# EAGLE library part TXS0108 (library Picoradio1V1)
IC TRNSLTR BIDIRECTIONAL 20VQFN
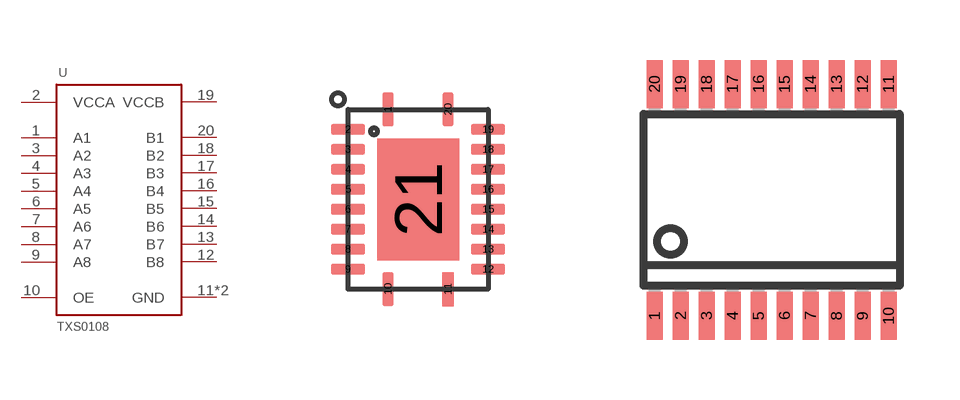
[diagram p1: symbol with the pads of QFN20-RGY; footprints QFN20-RGY, R-PDSO-G20]

Designator prefix U

## TXS0108QFN20 (DIGIKEY: 296-24806-1-ND; MFR: Texas Instruments; MPN: TXS0108ERGYR)  [QFN20-RGY]
1  A1
2  VCCA  in
3  A2
4  A3
5  A4
6  A5
7  A6
8  A7
9  A8
10  OE  in
11  GND  sup
12  B8
13  B7
14  B6
15  B5
16  B4
17  B3
18  B2
19  VCCB  in
20  B1
21  GND  sup

## TXS0108TSSOP-20  [R-PDSO-G20]
1  A1
2  VCCA  in
3  A2
4  A3
5  A4
6  A5
7  A6
8  A7
9  A8
10  OE  in
11  GND  sup
12  B8
13  B7
14  B6
15  B5
16  B4
17  B3
18  B2
19  VCCB  in
20  B1

## Footprint QFN20-RGY (pad centres in mm)
Texas Instruments RGY (QFN20) package
smd 0.28 x 0.85: 1 -0.75,2.25; 10 -0.75,-2.25; 11 0.75,-2.25; 20 0.75,2.25
smd 0.85 x 0.28: 2 -1.75,1.75; 3 -1.75,1.25; 4 -1.75,0.75; 5 -1.75,0.25; 6 -1.75,-0.25; 7 -1.75,-0.75; 8 -1.75,-1.25; 9 -1.75,-1.75; 12 1.75,-1.75; 13 1.75,-1.25; 14 1.75,-0.75; 15 1.75,-0.25; 16 1.75,0.25; 17 1.75,0.75; 18 1.75,1.25; 19 1.75,1.75
smd 2.05 x 3.05: 21 0,0

## Footprint R-PDSO-G20 (pad centres in mm)
smd 0.4 x 1.2: 1 -2.925,-2.9; 2 -2.275,-2.9; 3 -1.625,-2.9; 4 -0.975,-2.9; 5 -0.325,-2.9; 6 0.325,-2.9; 7 0.975,-2.9; 8 1.625,-2.9; 9 2.275,-2.9; 10 2.925,-2.9; 11 2.925,2.9; 12 2.275,2.9; 13 1.625,2.9; 14 0.975,2.9; 15 0.325,2.9; 16 -0.325,2.9; 17 -0.975,2.9; 18 -1.625,2.9; 19 -2.275,2.9; 20 -2.925,2.9